# Altium footprint library TOGGLE_SWITCH_TYPE1.PcbLib: 1 footprints
Each footprint in its own frame and in the unit in brackets; x right, y up, seen from the top. Pads: shape width x height; smd on the part's side, far side on the other; paste and mask are expansions set on the pad; w line width, h text height; cw(c..) or ccw(c..) is an arc to the next point about the centre after c.
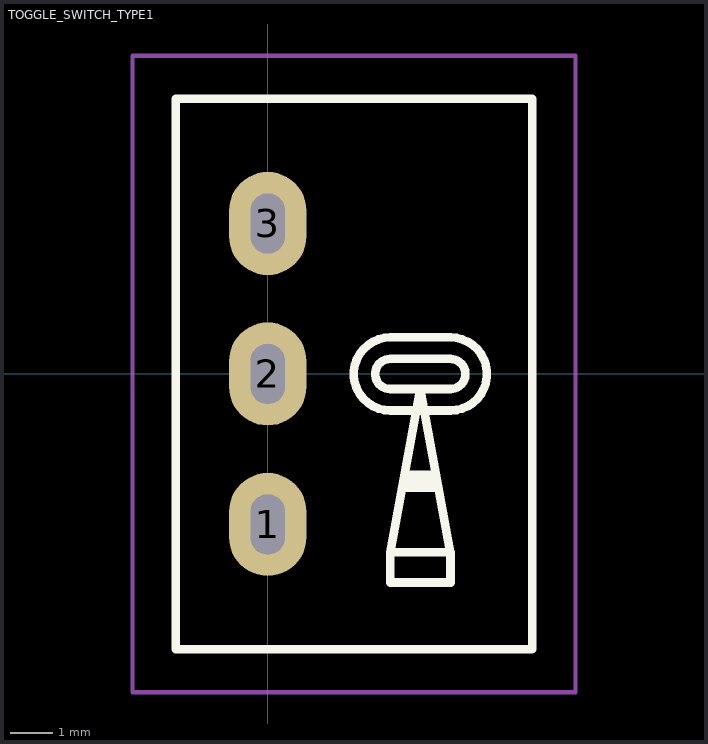
[diagram p0: the footprint, top view; thin cyan lines are the x and y axes]

## TOGGLE_SWITCH_TYPE1 [mm]
pads (3):
  oval 1.8x2.4 hole 0.8 slot 1.4 at 90 deg: 1(0,-3.5) 2(0,0) 3(0,3.5)
Top Overlay:
  rectangle: 3.2,-2.75 3.9,-2.25
  lines w0.2: 2.85,-4.15 4.25,-4.15 ; 2.85,-4.15 2.85,-4.85 4.25,-4.85 4.25,-4.15 ; 2.85,-4.15 3.55,-0.35 4.25,-4.15 ; -2.143,-6.401 6.157,-6.401 6.157,6.399 -2.143,6.399 -2.143,-6.401 ; 2.85,-0.85 cw(c2.85,0) 2.85,0.85 4.25,0.85 cw(c4.25,0) 4.25,-0.85 2.85,-0.85 ; 2.85,-0.35 cw(c2.85,0) 2.85,0.35 4.25,0.35 cw(c4.25,0) 4.25,-0.35 2.85,-0.35
Top Courtyard:
  lines w0.1: -3.143,-7.401 -2.143,-7.401 7.157,-7.401 7.157,7.4 -3.143,7.4 -3.143,-7.401
3D body "SPKEY0003.STEP": height 28.1, standoff -2.9, extent -2.15,-6.4 6.15,6.4